# Altium schematic symbol library SCH - MCU - NUVOTON - NUVOTON M251ZC2AE.SchLib: 1 symbol
Pins are listed as number, name and electrical type; pins without a type are passive.

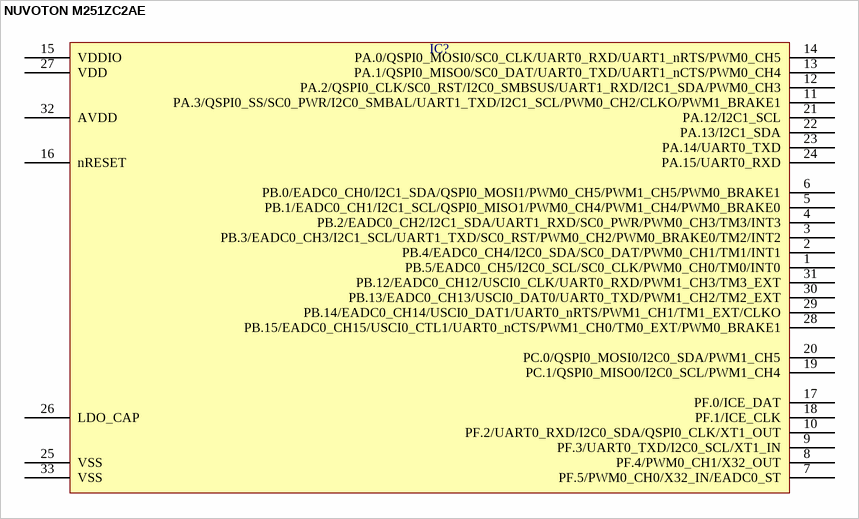
[diagram p0: symbol NUVOTON M251ZC2AE]

## NUVOTON M251ZC2AE
designator IC?  (value not drawn)
pins: 1 PB.5/EADC0_CH5/I2C0_SCL/SC0_CLK/PWM0_CH0/TM0/INT0, 2 PB.4/EADC0_CH4/I2C0_SDA/SC0_DAT/PWM0_CH1/TM1/INT1, 3 PB.3/EADC0_CH3/I2C1_SCL/UART1_TXD/SC0_RST/PWM0_CH2/PWM0_BRAKE0/TM2/INT2, 4 PB.2/EADC0_CH2/I2C1_SDA/UART1_RXD/SC0_PWR/PWM0_CH3/TM3/INT3, 5 PB.1/EADC0_CH1/I2C1_SCL/QSPI0_MISO1/PWM0_CH4/PWM1_CH4/PWM0_BRAKE0, 6 PB.0/EADC0_CH0/I2C1_SDA/QSPI0_MOSI1/PWM0_CH5/PWM1_CH5/PWM0_BRAKE1, 7 PF.5/PWM0_CH0/X32_IN/EADC0_ST, 8 PF.4/PWM0_CH1/X32_OUT, 9 PF.3/UART0_TXD/I2C0_SCL/XT1_IN, 10 PF.2/UART0_RXD/I2C0_SDA/QSPI0_CLK/XT1_OUT, 11 PA.3/QSPI0_SS/SC0_PWR/I2C0_SMBAL/UART1_TXD/I2C1_SCL/PWM0_CH2/CLKO/PWM1_BRAKE1, 12 PA.2/QSPI0_CLK/SC0_RST/I2C0_SMBSUS/UART1_RXD/I2C1_SDA/PWM0_CH3, 13 PA.1/QSPI0_MISO0/SC0_DAT/UART0_TXD/UART1_nCTS/PWM0_CH4, 14 PA.0/QSPI0_MOSI0/SC0_CLK/UART0_RXD/UART1_nRTS/PWM0_CH5, 15 VDDIO, 16 nRESET, 17 PF.0/ICE_DAT, 18 PF.1/ICE_CLK, 19 PC.1/QSPI0_MISO0/I2C0_SCL/PWM1_CH4, 20 PC.0/QSPI0_MOSI0/I2C0_SDA/PWM1_CH5, 21 PA.12/I2C1_SCL, 22 PA.13/I2C1_SDA, 23 PA.14/UART0_TXD, 24 PA.15/UART0_RXD, 25 VSS, 26 LDO_CAP, 27 VDD, 28 PB.15/EADC0_CH15/USCI0_CTL1/UART0_nCTS/PWM1_CH0/TM0_EXT/PWM0_BRAKE1, 29 PB.14/EADC0_CH14/USCI0_DAT1/UART0_nRTS/PWM1_CH1/TM1_EXT/CLKO, 30 PB.13/EADC0_CH13/USCI0_DAT0/UART0_TXD/PWM1_CH2/TM2_EXT, 31 PB.12/EADC0_CH12/USCI0_CLK/UART0_RXD/PWM1_CH3/TM3_EXT, 32 AVDD, 33 VSS